# Altium integrated library Micrel Power Mgt Switching Circuit.IntLib: 4 symbols
Pins are listed as number, name and electrical type; pins without a type are passive.

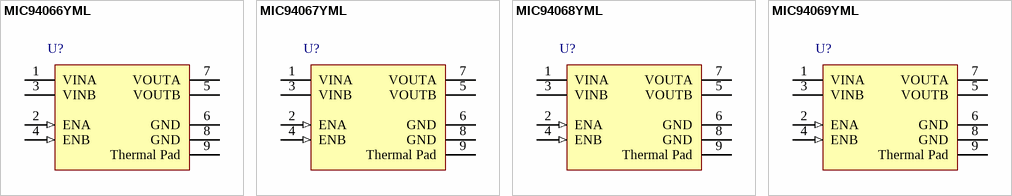
[diagram p0: symbols MIC94066YML to MIC94069YML]

## MIC94066YML
designator U?
1.7 to 5.5V Dual High Side Power Switch, 2x2mm MLF, Soft-Start, Load Discharge Cct.; Published: 14-Mar-2008; DatasheetVersion: Aug-2006; PackageVersion: Mar-2006; PackageReference: MLF22D-08; Publisher: Altium Limited; PackageDescription: MLF (2mm x 2mm) Ultra-Small, 8 Leads; ComponentLink1Description: Manufacturer Link; ComponentLink1URL: http://www.micrel.com/; ComponentLink2Description: Datasheet; ComponentLink2URL: http://www.micrel.com/_PDF/mic94066-69.pdf
footprint MLF22D-08 (SON 9-Leads, Body 2.0x2.0mm (typ), Pitch 0.50mm)
pins: 1 VINA (power), 2 ENA (in), 3 VINB (power), 4 ENB (in), 5 VOUTB (power), 6 GND (power), 7 VOUTA (power), 8 GND (power), 9 Thermal Pad (power)

## MIC94067YML
designator U?
1.7 to 5.5V Dual High Side Power Switch, 2x2mm MLF, Soft-Start, Load Discharge Cct.; Published: 14-Mar-2008; DatasheetVersion: Aug-2006; PackageVersion: Mar-2006; PackageReference: MLF22D-08; Publisher: Altium Limited; PackageDescription: MLF (2mm x 2mm) Ultra-Small, 8 Leads; ComponentLink1Description: Manufacturer Link; ComponentLink1URL: http://www.micrel.com/; ComponentLink2Description: Datasheet; ComponentLink2URL: http://www.micrel.com/_PDF/mic94066-69.pdf
footprint MLF22D-08 (SON 9-Leads, Body 2.0x2.0mm (typ), Pitch 0.50mm)
pins: 1 VINA (power), 2 ENA (in), 3 VINB (power), 4 ENB (in), 5 VOUTB (power), 6 GND (power), 7 VOUTA (power), 8 GND (power), 9 Thermal Pad (power)

## MIC94068YML
designator U?
1.7 to 5.5V Dual High Side Power Switch, 2x2mm MLF, Soft-Start, Load Discharge Cct.; Published: 14-Mar-2008; DatasheetVersion: Aug-2006; PackageVersion: Mar-2006; PackageReference: MLF22D-08; Publisher: Altium Limited; PackageDescription: MLF (2mm x 2mm) Ultra-Small, 8 Leads; ComponentLink1Description: Manufacturer Link; ComponentLink1URL: http://www.micrel.com/; ComponentLink2Description: Datasheet; ComponentLink2URL: http://www.micrel.com/_PDF/mic94066-69.pdf
footprint MLF22D-08 (SON 9-Leads, Body 2.0x2.0mm (typ), Pitch 0.50mm)
pins: 1 VINA (power), 2 ENA (in), 3 VINB (power), 4 ENB (in), 5 VOUTB (power), 6 GND (power), 7 VOUTA (power), 8 GND (power), 9 Thermal Pad (power)

## MIC94069YML
designator U?
1.7 to 5.5V Dual High Side Power Switch, 2x2mm MLF, Soft-Start, Load Discharge Cct.; Published: 14-Mar-2008; DatasheetVersion: Aug-2006; PackageVersion: Mar-2006; PackageReference: MLF22D-08; Publisher: Altium Limited; PackageDescription: MLF (2mm x 2mm) Ultra-Small, 8 Leads; ComponentLink1Description: Manufacturer Link; ComponentLink1URL: http://www.micrel.com/; ComponentLink2Description: Datasheet; ComponentLink2URL: http://www.micrel.com/_PDF/mic94066-69.pdf
footprint MLF22D-08 (SON 9-Leads, Body 2.0x2.0mm (typ), Pitch 0.50mm)
pins: 1 VINA (power), 2 ENA (in), 3 VINB (power), 4 ENB (in), 5 VOUTB (power), 6 GND (power), 7 VOUTA (power), 8 GND (power), 9 Thermal Pad (power)